# EAGLE library part TE-AMP-5PIN (library MSTFSAE-Connectors)
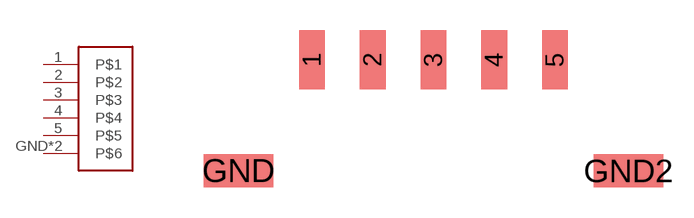
[diagram p3: symbol with the pads of 2-1445057-5; footprint 2-1445057-5]

Designator prefix -

## TE-AMP-5PIN  [2-1445057-5]
1  P$1
2  P$2
3  P$3
4  P$4
5  P$5
GND  P$6
GND2  P$6

## Footprint 2-1445057-5 (pad centres in mm)
smd 1.27 x 2.92: 1 -6,0; 2 -3,0; 3 0,0; 4 3,0; 5 6,0
smd 3.43 x 1.65: GND -9.635,-5.48; GND2 9.635,-5.48